# EAGLE library part LT1170CQPBF (library U-AnalogDevices-LT1170CQPBF)
Check prices <https://pricing.snapeda.com/parts/LT1170CQ%23PBF/Analog%20Devices/view-part?ref=eda>
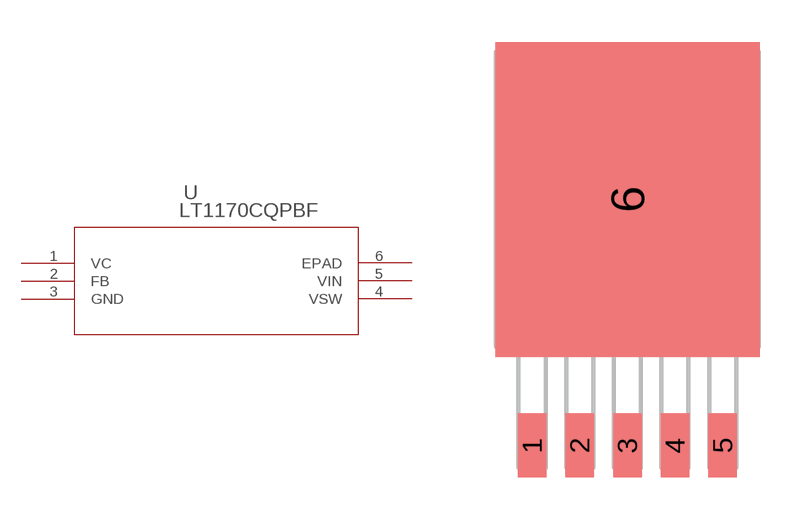
[diagram p0: symbol with the pads of DDPAK-5_Q; footprint DDPAK-5_Q]

Designator prefix U

## LT1170CQPBF (Availability: Warning; Description: Buck, Boost, Cuk, Flyback, Forward Converter Switching Regulator IC Positive or Negative Adjustable 1.244V 1 Output 5A (Switch) TO-263-6, D²Pak (5 Leads + Tab), TO-263BA; MF: Analog Devices; MP: LT1170CQ#PBF; Package: DD PAK-5 Analog Devices; Price: None; Purchase-URL: https://pricing.snapeda.com/search/part/LT1170CQ#PBF/?ref=eda)  [DDPAK-5_Q]
1  VC  pas
2  FB  pas
3  GND  pwr
4  VSW  pas
5  VIN  in
6  EPAD  pas

## Footprint DDPAK-5_Q (pad centres in mm)
smd 1.016 x 2.286: 1 -3.404,-8.801; 2 -1.702,-8.801; 3 0,-8.801; 4 1.702,-8.801; 5 3.404,-8.801
smd 9.449 x 11.252: 6 0,0